# Altium footprint library LED_PcbLib.PcbLib: 6 footprints
Each footprint in its own frame and in the unit in brackets; x right, y up, seen from the top. Pads: shape width x height; smd on the part's side, far side on the other; paste and mask are expansions set on the pad; w line width, h text height; cw(c..) or ccw(c..) is an arc to the next point about the centre after c.
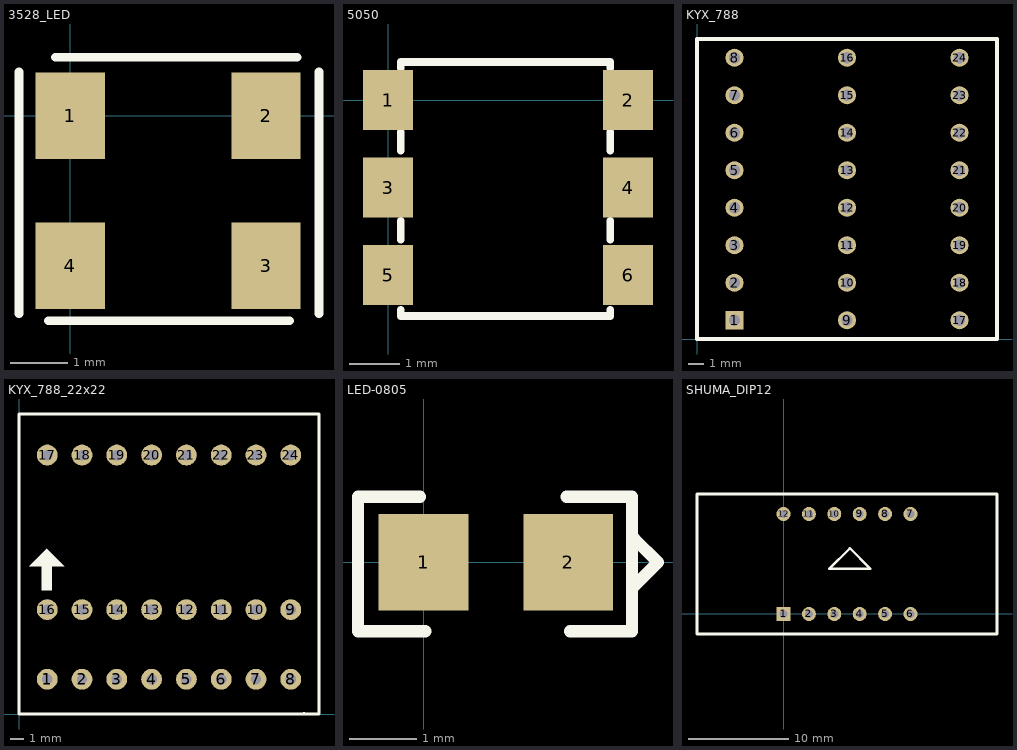
[diagram p0: the footprints below, top view; thin cyan lines are the x and y axes]

## 3528_LED [mm]
pads (4):
  rect 1.2x1.5 smd: 1(0,0) 2(3.4,0) 3(3.4,-2.6) 4(0,-2.6)
Top Overlay:
  lines w0.152: -0.889,-3.429 -0.889,0.762 ; -0.381,-3.556 3.81,-3.556 ; -0.254,1.016 3.937,1.016 ; 4.318,-3.429 4.318,0.762

## 5050 [mm]
pads (6):
  rect 1x1.2 smd: 1(0,0) 2(4.8,0) 3(0,-1.75) 4(4.8,-1.75) 5(0,-3.5) 6(4.8,-3.5)
Top Overlay:
  lines w0.152: 0.254,-4.191 0.254,-4.318 4.445,-4.318 4.445,-4.191 ; 0.254,-2.794 0.254,-2.413 ; 0.254,-1.016 0.254,-0.635 ; 0.254,0.635 0.254,0.762 4.445,0.762 4.445,0.635 ; 4.445,-2.794 4.445,-2.413 ; 4.445,-1.016 4.445,-0.635

## KYX_788 [mm]
pads (24):
  rect 1.2x1.2 hole 0.762: 1(2.5,1.25)
  round 1.2 hole 0.762: 2(2.5,3.75) 3(2.5,6.25) 4(2.5,8.75) 5(2.5,11.25) 6(2.5,13.75) 7(2.5,16.25) 8(2.5,18.75) 9(10,1.25) 10(10,3.75) 11(10,6.25) 12(10,8.75) 13(10,11.25) 14(10,13.75) 15(10,16.25) 16(10,18.75) 17(17.5,1.25) 18(17.5,3.75) 19(17.5,6.25) 20(17.5,8.75) 21(17.5,11.25) 22(17.5,13.75) 23(17.5,16.25) 24(17.5,18.75)
Top Overlay:
  lines w0.254: 0,0 0,20 20,20 20,0 0,0

## KYX_788_22x22 [mil]
pads (24):
  round 60 hole 30: 1(81.1,100) 2(181.1,100) 3(281.1,100) 4(381.1,100) 5(481.1,100) 6(581.1,100) 7(681.1,100) 8(781.1,100) 9(781.1,300) 10(681.1,300) 11(581.1,300) 12(481.1,300) 13(381.1,300) 14(281.1,300) 15(181.1,300) 16(81.1,300) 17(81.1,744.09) 18(181.1,744.09) 19(281.1,744.09) 20(381.1,744.09) 21(481.1,744.09) 22(581.1,744.09) 23(681.1,744.09) 24(781.1,744.09)
Top Overlay:
  rectangle: 65,355 95,425
  region: 30,425 130,425 80,475
  lines w10: 818.94,1.22 819.92,0.24 ; 862.2,0 0,0 0,862.2 862.2,862.2 862.2,0.24

## LED-0805 [mil]
pads (2):
  rect 52x56 smd: 1(0,0) 2(84,0)
Top Overlay:
  lines w7: -2,38 -38,38 -38,-40 1,-40 ; 83,38 121,38 121,-40 85,-40 ; 122,-14 136,0 122,14

## SHUMA_DIP12 [mm]
pads (12):
  rect 1.4x1.4 hole 0.8: 1(0,0)
  round 1.4 hole 0.8: 2(2.54,0) 3(5.08,0) 4(7.62,0) 5(10.16,0) 6(12.7,0) 7(12.7,10) 8(10.16,10) 9(7.62,10) 10(5.08,10) 11(2.54,10) 12(0,10)
Top Overlay:
  lines w0.254: -8.65,-2 -8.65,12 21.35,12 21.35,-2 -8.65,-2 ; 4.599,4.545 8.663,4.545 6.631,6.577 4.599,4.545